# EAGLE library part AS-ITM-00191 (library tinycircuits)
RFM22B-S2 433MHZ TRANSCEIVER
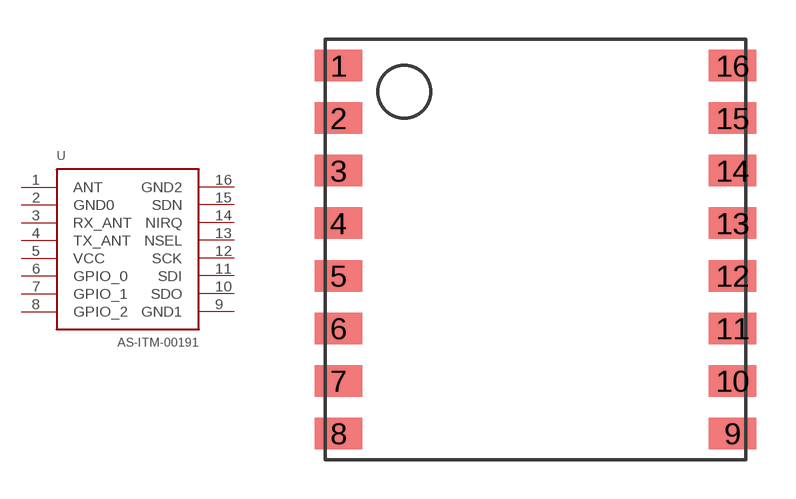
[diagram p82: symbol with the pads of RFM22B-S2; footprint RFM22B-S2]

Designator prefix U

## AS-ITM-00191 (PARTNO: AS-ITM-00191; VALUE: RFM22B-S2)  [RFM22B-S2]
1  ANT
2  GND0
3  RX_ANT
4  TX_ANT
5  VCC
6  GPIO_0
7  GPIO_1
8  GPIO_2
9  GND1
10  SDO
11  SDI
12  SCK
13  NSEL
14  NIRQ
15  SDN
16  GND2

## Footprint RFM22B-S2 (pad centres in mm)
smd 1.8 x 1.2: 1 -7.5,7; 2 -7.5,5; 3 -7.5,3; 4 -7.5,1; 5 -7.5,-1; 6 -7.5,-3; 7 -7.5,-5; 8 -7.5,-7; 9 7.5,-7; 10 7.5,-5; 11 7.5,-3; 12 7.5,-1; 13 7.5,1; 14 7.5,3; 15 7.5,5; 16 7.5,7